# EAGLE library part UH7843 (library IC)
Touch Screen Controller http://mdfly.com/newmdfly/products/LCD/176x220/touchcontroller.pdf
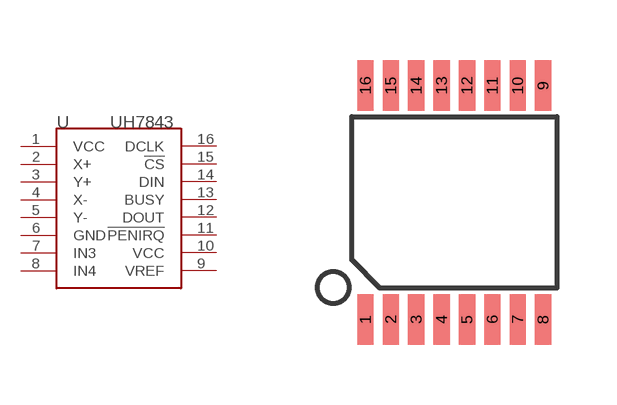
[diagram p3: symbol with the pads of SSOP16; footprint SSOP16]

Designator prefix U

## UH7843S  [SSOP16]
1  VCC
2  X+
3  Y+
4  X-
5  Y-
6  GND
7  IN3
8  IN4
9  VREF
10  VCC
11  !PENIRQ
12  DOUT
13  BUSY
14  DIN
15  !CS
16  DCLK

## Footprint SSOP16 (pad centres in mm)
Small Shrink Outline Package
smd 0.406 x 1.27: 1 -2.223,-2.925; 2 -1.587,-2.925; 3 -0.953,-2.925; 4 -0.318,-2.925; 5 0.318,-2.925; 6 0.953,-2.925; 7 1.587,-2.925; 8 2.223,-2.925; 9 2.223,2.925; 10 1.587,2.925; 11 0.953,2.925; 12 0.318,2.925; 13 -0.318,2.925; 14 -0.953,2.925; 15 -1.587,2.925; 16 -2.223,2.925